# EAGLE library part BC127 (library bc127)
Bluetooth Certified 4.0 Audio module (11.8mm x 18mm x 3.2mm), 51 pin, surface mounted Source: Datasheet <https://www.bluecreation.com/fdownload.php?file=bc127-datasht-009-1467380980.pdf>
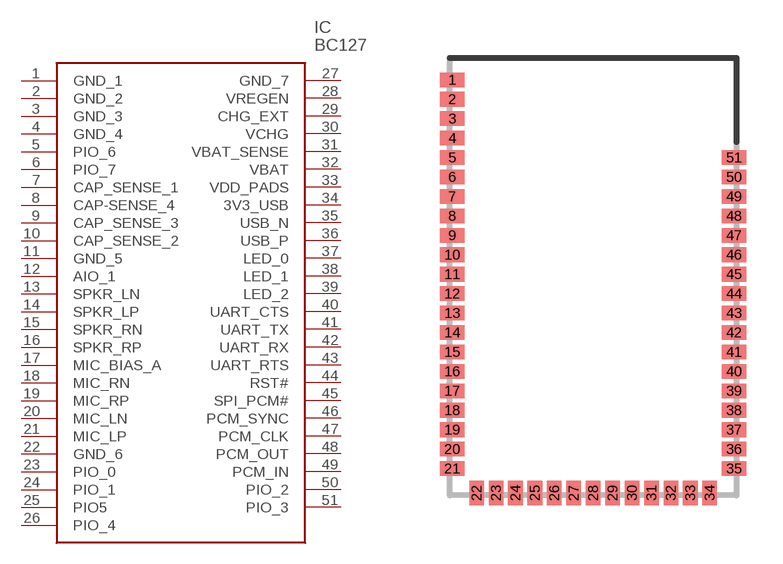
[diagram p0: symbol with the pads of BC127_3; footprint BC127_3]

Designator prefix IC

## BC127 (Description: Bluetooth Certified 4.0 Audio module (11.8mm x 18mm x 3.2mm), 51 pin, surface mounted; Height: mm; Manufacturer_Name: Blue Creation; Manufacturer_Part_Number: bc127)  [BC127_3]
1  GND_1
2  GND_2
3  GND_3
4  GND_4
5  PIO_6
6  PIO_7
7  CAP_SENSE_1
8  CAP-SENSE_4
9  CAP_SENSE_3
10  CAP_SENSE_2
11  GND_5
12  AIO_1
13  SPKR_LN
14  SPKR_LP
15  SPKR_RN
16  SPKR_RP
17  MIC_BIAS_A
18  MIC_RN
19  MIC_RP
20  MIC_LN
21  MIC_LP
22  GND_6
23  PIO_0
24  PIO_1
25  PIO5
26  PIO_4
27  GND_7
28  VREGEN
29  CHG_EXT
30  VCHG
31  VBAT_SENSE
32  VBAT
33  VDD_PADS
34  3V3_USB
35  USB_N
36  USB_P
37  LED_0
38  LED_1
39  LED_2
40  UART_CTS
41  UART_TX
42  UART_RX
43  UART_RTS
44  RST#
45  SPI_PCM#
46  PCM_SYNC
47  PCM_CLK
48  PCM_OUT
49  PCM_IN
50  PIO_2
51  PIO_3

## Footprint BC127_3 (pad centres in mm)
BC127_3
smd 1 x 0.6: 1 0.1,17.1; 2 0.1,16.3; 3 0.1,15.5; 4 0.1,14.7; 5 0.1,13.9; 6 0.1,13.1; 7 0.1,12.3; 8 0.1,11.5; 9 0.1,10.7; 10 0.1,9.9; 11 0.1,9.1; 12 0.1,8.3; 13 0.1,7.5; 14 0.1,6.7; 15 0.1,5.9; 16 0.1,5.1; 17 0.1,4.3; 18 0.1,3.5; 19 0.1,2.7; 20 0.1,1.9; 21 0.1,1.1; 35 11.7,1.1; 36 11.7,1.9; 37 11.7,2.7; 38 11.7,3.5; 39 11.7,4.3; 40 11.7,5.1; 41 11.7,5.9; 42 11.7,6.7; 43 11.7,7.5; 44 11.7,8.3; 45 11.7,9.1; 46 11.7,9.9; 47 11.7,10.7; 48 11.7,11.5; 49 11.7,12.3; 50 11.7,13.1; 51 11.7,13.9
smd 0.6 x 1: 22 1.1,0.1; 23 1.9,0.1; 24 2.7,0.1; 25 3.5,0.1; 26 4.3,0.1; 27 5.1,0.1; 28 5.9,0.1; 29 6.7,0.1; 30 7.5,0.1; 31 8.3,0.1; 32 9.1,0.1; 33 9.9,0.1; 34 10.7,0.1